# Altium schematic symbol library индуктивности.SchLib: 13 symbols
Pins are listed as number, name and electrical type; pins without a type are passive.

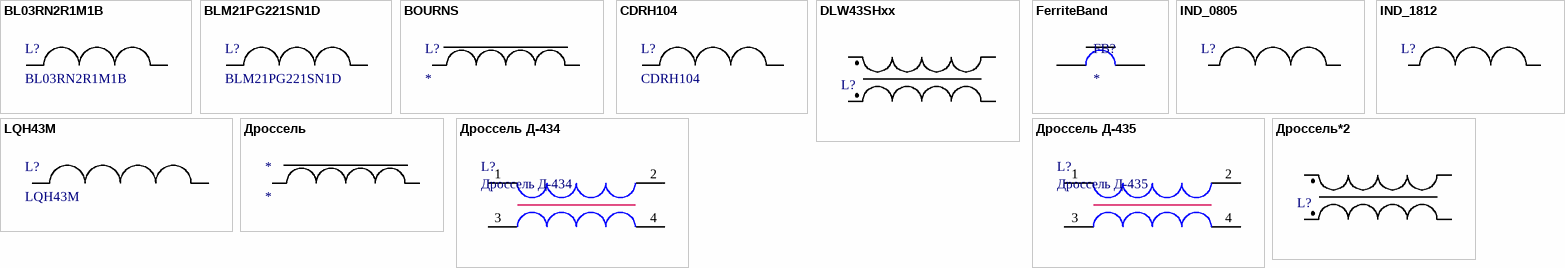
[diagram p0: symbols BL03RN2R1M1B to Дроссель*2]

## BL03RN2R1M1B
designator L?
pins: 1, 2

## BLM21PG221SN1D
designator L?
footprint L0805
pins: 1, 2

## BOURNS
designator L?
Rem: *; Value: *; Tolerance: *; Power/Voltage: *; TKE: *; ManufacturerPartNumber: *; Manufacturer: *; Quantity: *; Примечание: *
footprint SDR0604
pins: 1, 2

## CDRH104
designator L?
footprint CDRH104
pins: 1, 2

## DLW43SHxx
designator L?  (value not drawn)
Manufacturer: Murata; ManufacturerPartNumber: DLW43SH510XK2L
footprint DLW43SHxx
pins: 1, 2, 3, 4

## FerriteBand
designator FB?
footprint L0805
footprint L0603
pins: 1, 2

## IND_0805
designator L?
footprint L0805
pins: 1, 2

## IND_1812
designator L?
footprint 1812
pins: 1, 2

## LQH43M
designator L?
footprint LQH43M
pins: 1, 2

## Дроссель
designator *
pins: 1, 2

## Дроссель Д-434
designator L?
РШПИ.671342.044
pins: 1, 2, 3, 4

## Дроссель Д-435
designator L?
РШПИ.671342.045
pins: 1, 2, 3, 4

## Дроссель*2
designator L?  (value not drawn)
pins: 1, 1, 2, 2